# Altium schematic symbol library CR2032_holder.SchLib: 1 symbol
Pins are listed as number, name and electrical type; pins without a type are passive.

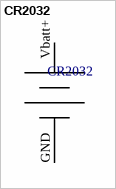
[diagram p0: symbol CR2032]

## CR2032
designator CR2032  (value not drawn)
CR2032 holder
footprint CR2032_Holder (battery holder cr2032)
footprint CR2032_Enclosed_Holder (Harwin S8421-45R)
pins: GND, Vbatt+